# Altium footprint library C2220C226K3RAC7800.PcbLib: 3 footprints
Each footprint in its own frame and in the unit in brackets; x right, y up, seen from the top. Pads: shape width x height; smd on the part's side, far side on the other; paste and mask are expansions set on the pad; w line width, h text height; cw(c..) or ccw(c..) is an arc to the next point about the centre after c.
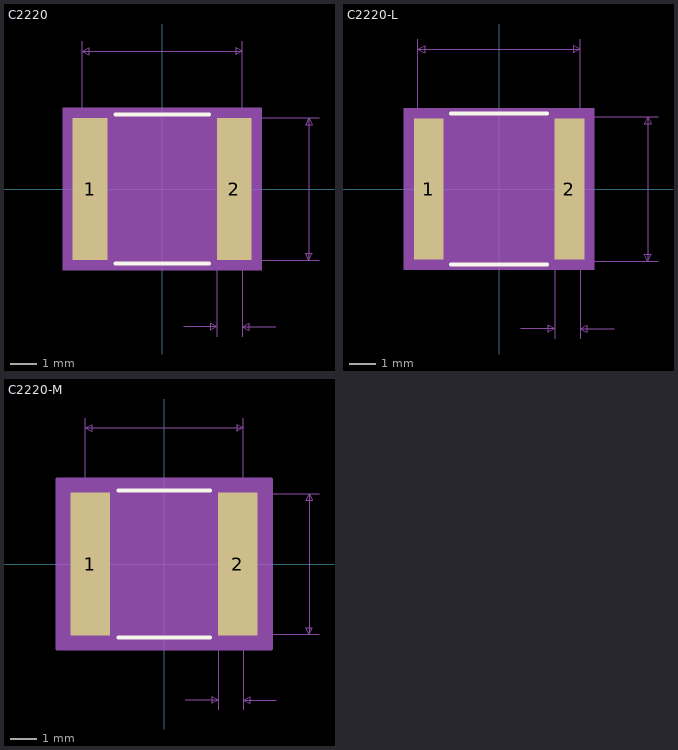
[diagram p0: the footprints below, top view; thin cyan lines are the x and y axes]

## C2220 [mil]
pads (2):
  rect 52x213 smd: 1(-108,0) 2(108,0)
Top Overlay:
  lines w6: -69.89,-111.5 69.89,-111.5 ; -69.89,111.5 69.89,111.5
Mechanical 5:
  region: 149,-121.5 -149,-121.5 -149,121.5 149,121.5
Mechanical 7:
  lines w1: -120,0 -120,221.5 ; 0,-106.5 235,-106.5 ; 0,106.5 235,106.5 ; 32,-206.5 82,-206.5 ; 82,-221.5 82,0 ; 120,-221.5 120,0 120,221.5 ; 170,-206.5 120,-206.5 ; -120,206.5 120,206.5 ; -120,206.5 -110,211.5 -110,201.5 -120,206.5 ; 82,-206.5 72,-201.5 72,-211.5 82,-206.5 ; 120,-206.5 130,-201.5 130,-211.5 120,-206.5 ; 120,206.5 110,211.5 110,201.5 120,206.5 ; 220,-106.5 220,106.5 ; 220,-106.5 215,-96.5 225,-96.5 220,-106.5 ; 220,106.5 215,96.5 225,96.5 220,106.5
  text "Default Padstyle: RX52Y213D0T" at -362.5,-376.5 h50
  text "Alternate 1 Padstyle: OX60Y90D30P" at -412.5,-476.5 h50
  text "Alternate 2 Padstyle: OX90Y60D30P" at -412.5,-576.5 h50
  text "0.213in/5.41mm" at 240,-12.5 h25
  text "0.24in/6.096mm" at -87.5,226.5 h25
  text "0.038in/0.965mm" at 7.25,-251.5 h25
Mechanical 13:
  lines w1: -120,-106.5 -120,106.5 ; -120,-106.5 -82,-106.5 -82,106.5 -120,106.5 ; -120,-106.5 120,-106.5 ; -120,-106.5 -120,106.5 ; -120,106.5 120,106.5 ; 120,-106.5 82,-106.5 82,106.5 120,106.5 ; 120,-106.5 120,106.5 ; 120,-106.5 120,106.5
Mechanical 15:
  region: 144,-116.5 -144,-116.5 -144,116.5 144,116.5
  lines w6: -144,-116.5 -144,116.5 144,116.5 144,-116.5 -144,-116.5
3D body: height 10, standoff 0, extent 0,0 10,10

## C2220-L [mil]
pads (2):
  rect 44x209 smd paste+0 mask+0: 1(-104,0) 2(104,0)
Top Overlay:
  lines w6: -70.93,-111.5 70.93,-111.5 ; -70.93,111.5 70.93,111.5
Mechanical 5:
  region: 141,-119.5 -141,-119.5 -141,119.5 141,119.5
Mechanical 7:
  lines w1: -120,0 -120,221.5 ; 0,-106.5 235,-106.5 ; 0,106.5 235,106.5 ; 32,-206.5 82,-206.5 ; 82,-221.5 82,0 ; 120,-221.5 120,0 120,221.5 ; 170,-206.5 120,-206.5 ; -120,206.5 120,206.5 ; -120,206.5 -110,211.5 -110,201.5 -120,206.5 ; 82,-206.5 72,-201.5 72,-211.5 82,-206.5 ; 120,-206.5 130,-201.5 130,-211.5 120,-206.5 ; 120,206.5 110,211.5 110,201.5 120,206.5 ; 220,-106.5 220,106.5 ; 220,-106.5 215,-96.5 225,-96.5 220,-106.5 ; 220,106.5 215,96.5 225,96.5 220,106.5
  text "Default Padstyle: RX44Y209D0T" at -362.5,-374.5 h50
  text "Alternate 1 Padstyle: OX60Y90D30P" at -412.5,-474.5 h50
  text "Alternate 2 Padstyle: OX90Y60D30P" at -412.5,-574.5 h50
  text "0.213in/5.41mm" at 240,-12.5 h25
  text "0.24in/6.096mm" at -87.5,226.5 h25
  text "0.038in/0.965mm" at 7.25,-251.5 h25
Mechanical 13:
  lines w1: -120,-106.5 -120,106.5 ; -120,-106.5 -82,-106.5 -82,106.5 -120,106.5 ; -120,-106.5 120,-106.5 ; -120,-106.5 -120,106.5 ; -120,106.5 120,106.5 ; 120,-106.5 82,-106.5 82,106.5 120,106.5 ; 120,-106.5 120,106.5 ; 120,-106.5 120,106.5
Mechanical 15:
  region: 130,-108.5 -130,-108.5 -130,108.5 130,108.5
  lines w6: -130,-108.5 -130,108.5 130,108.5 130,-108.5 -130,-108.5
3D body: height 10, standoff 0, extent 0,0 10,10

## C2220-M [mil]
pads (2):
  rect 60x217 smd paste+0 mask+0: 1(-112,0) 2(112,0)
Top Overlay:
  lines w6: -69.25,-111.5 69.25,-111.5 ; -69.25,111.5 69.25,111.5
Mechanical 5:
  region: 157,-123.5 -157,-123.5 -157,123.5 157,123.5
Mechanical 7:
  lines w1: -120,0 -120,221.5 ; 0,-106.5 235,-106.5 ; 0,106.5 235,106.5 ; 32,-206.5 82,-206.5 ; 82,-221.5 82,0 ; 120,-221.5 120,0 120,221.5 ; 170,-206.5 120,-206.5 ; -120,206.5 120,206.5 ; -120,206.5 -110,211.5 -110,201.5 -120,206.5 ; 82,-206.5 72,-201.5 72,-211.5 82,-206.5 ; 120,-206.5 130,-201.5 130,-211.5 120,-206.5 ; 120,206.5 110,211.5 110,201.5 120,206.5 ; 220,-106.5 220,106.5 ; 220,-106.5 215,-96.5 225,-96.5 220,-106.5 ; 220,106.5 215,96.5 225,96.5 220,106.5
  text "Default Padstyle: RX60Y217D0T" at -362.5,-378.5 h50
  text "Alternate 1 Padstyle: OX60Y90D30P" at -412.5,-478.5 h50
  text "Alternate 2 Padstyle: OX90Y60D30P" at -412.5,-578.5 h50
  text "0.213in/5.41mm" at 240,-12.5 h25
  text "0.24in/6.096mm" at -87.5,226.5 h25
  text "0.038in/0.965mm" at 7.25,-251.5 h25
Mechanical 13:
  lines w1: -120,-106.5 -120,106.5 ; -120,-106.5 -82,-106.5 -82,106.5 -120,106.5 ; -120,-106.5 120,-106.5 ; -120,-106.5 -120,106.5 ; -120,106.5 120,106.5 ; 120,-106.5 82,-106.5 82,106.5 120,106.5 ; 120,-106.5 120,106.5 ; 120,-106.5 120,106.5
Mechanical 15:
  region: 162,-128.5 -162,-128.5 -162,128.5 162,128.5
  lines w6: -162,-128.5 -162,128.5 162,128.5 162,-128.5 -162,-128.5
3D body: height 10, standoff 0, extent 0,0 10,10